# Altium footprint library PcbLib1.PcbLib: 16 footprints
Each footprint in its own frame and in the unit in brackets; x right, y up, seen from the top. Pads: shape width x height; smd on the part's side, far side on the other; paste and mask are expansions set on the pad; w line width, h text height; cw(c..) or ccw(c..) is an arc to the next point about the centre after c.
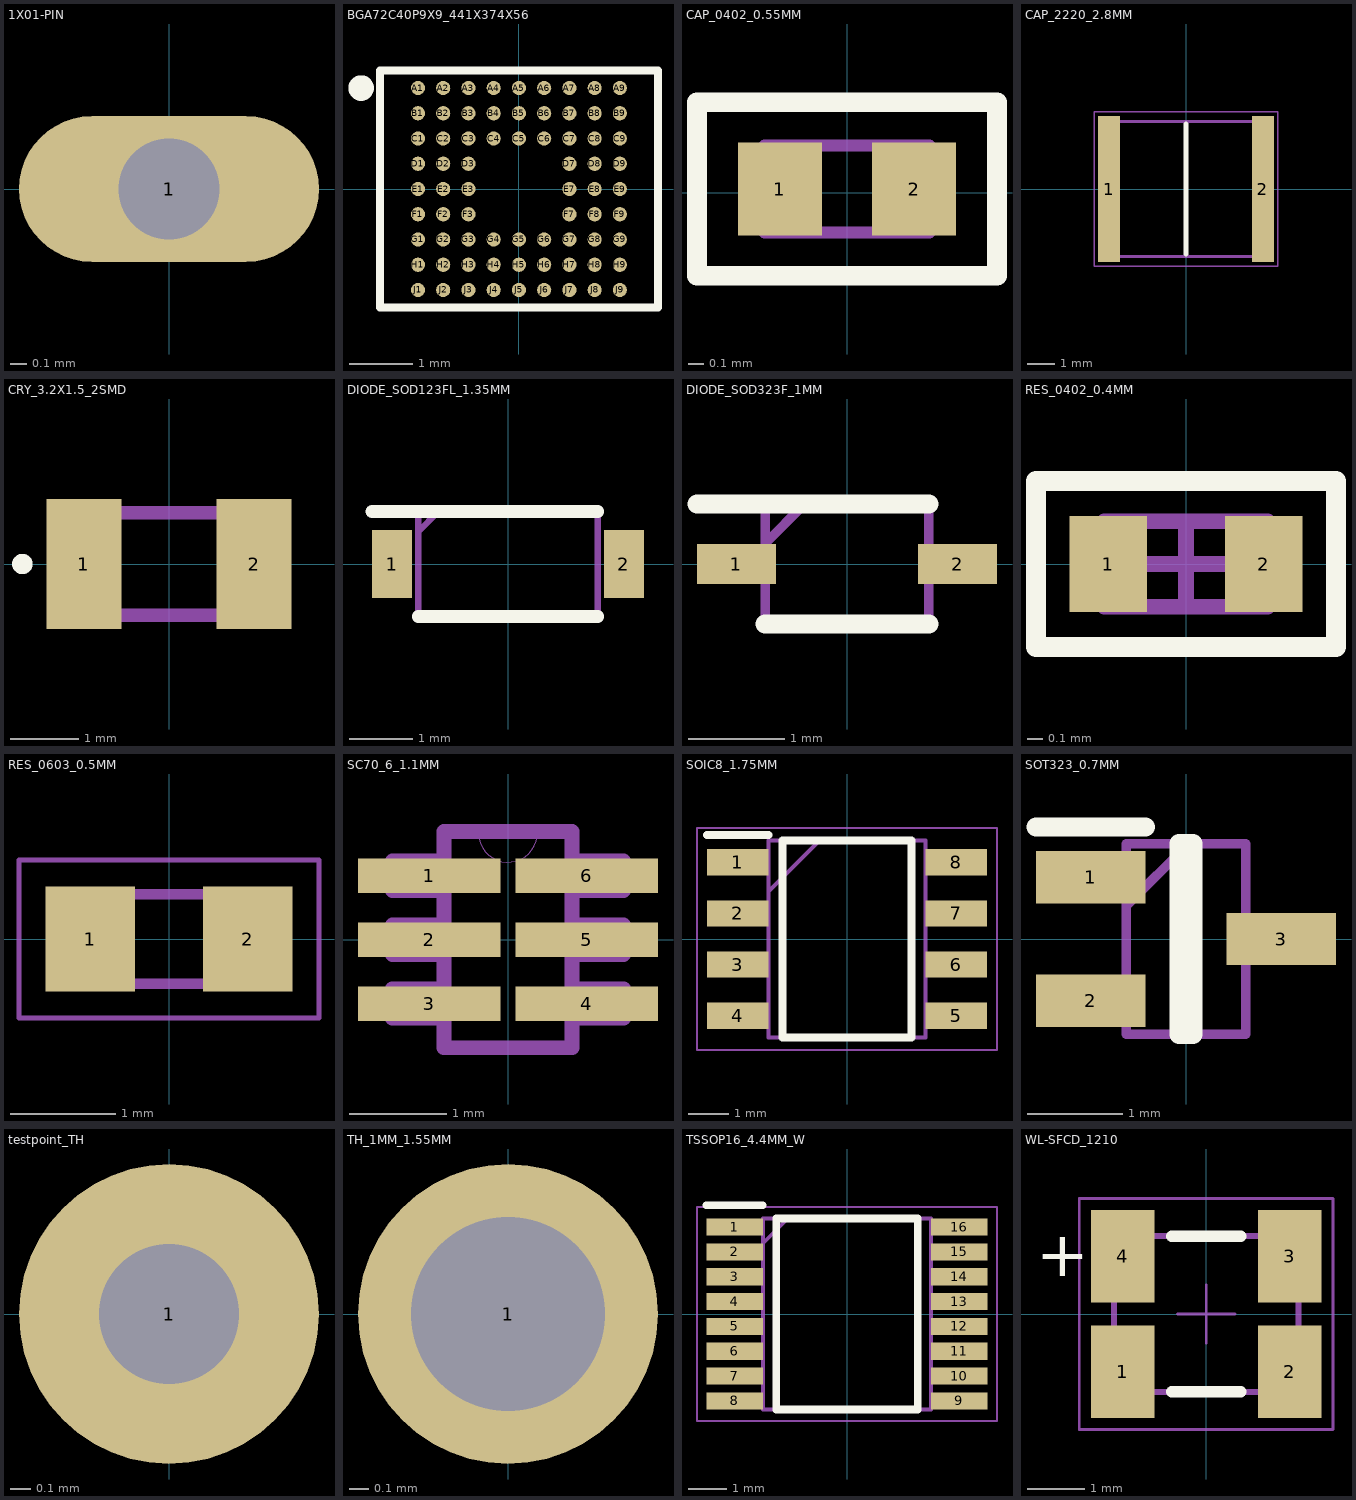
[diagram p0: the footprints below, top view; thin cyan lines are the x and y axes]

## 1X01-PIN [mil]
pads (1):
  oval 74x36 hole 25: 1(0,0)

## BGA72C40P9X9_441X374X56 [mm]
pads (72):
  round 0.225 smd mask+0: A1(-1.6,1.6) A2(-1.2,1.6) A3(-0.8,1.6) A4(-0.4,1.6) A5(0,1.6) A6(0.4,1.6) A7(0.8,1.6) A8(1.2,1.6) A9(1.6,1.6) B1(-1.6,1.2) B2(-1.2,1.2) B3(-0.8,1.2) B4(-0.4,1.2) B5(0,1.2) B6(0.4,1.2) B7(0.8,1.2) B8(1.2,1.2) B9(1.6,1.2) C1(-1.6,0.8) C2(-1.2,0.8) C3(-0.8,0.8) C4(-0.4,0.8) C5(0,0.8) C6(0.4,0.8) C7(0.8,0.8) C8(1.2,0.8) C9(1.6,0.8) D1(-1.6,0.4) D2(-1.2,0.4) D3(-0.8,0.4) D7(0.8,0.4) D8(1.2,0.4) D9(1.6,0.4) E1(-1.6,0) E2(-1.2,0) E3(-0.8,0) E7(0.8,0) E8(1.2,0) E9(1.6,0) F1(-1.6,-0.4) F2(-1.2,-0.4) F3(-0.8,-0.4) F7(0.8,-0.4) F8(1.2,-0.4) F9(1.6,-0.4) G1(-1.6,-0.8) G2(-1.2,-0.8) G3(-0.8,-0.8) G4(-0.4,-0.8) G5(0,-0.8) G6(0.4,-0.8) G7(0.8,-0.8) G8(1.2,-0.8) G9(1.6,-0.8) H1(-1.6,-1.2) H2(-1.2,-1.2) H3(-0.8,-1.2) H4(-0.4,-1.2) H5(0,-1.2) H6(0.4,-1.2) H7(0.8,-1.2) H8(1.2,-1.2) H9(1.6,-1.2) J1(-1.6,-1.6) J2(-1.2,-1.6) J3(-0.8,-1.6) J4(-0.4,-1.6) J5(0,-1.6) J6(0.4,-1.6) J7(0.8,-1.6) J8(1.2,-1.6) J9(1.6,-1.6)
Top Overlay:
  circle w0.305: c-2.5,1.6 r0.05
  lines w0.127: -2.204,-1.88 2.204,-1.88 2.204,1.88 -2.204,1.88 -2.204,-1.88
Top Solder:
  drawing of 72 lines, arcs and shapes, not listed
3D body "STM32L476JGY6TR--3DModel-STEP-56544.STEP": height 0.59, standoff 0, extent -2.204,-1.88 2.204,1.88

## CAP_0402_0.55MM [mm]
height 0.55
pads (2):
  rect 0.54x0.6 smd: 1(-0.432,0.025) 2(0.432,0.025)
Top Overlay:
  lines w0.127: -0.965,-0.533 0.635,-0.533 0.965,-0.533 0.965,0.584 -0.965,0.584 -0.965,-0.203 -0.965,-0.533
Top Assembly:
  lines w0.05: -0.95,-0.525 -0.95,0.575 0.95,0.575 0.95,-0.525 -0.95,-0.525
  lines w0.076: -0.53,-0.255 0.53,-0.255 0.53,0.305 -0.53,0.305 -0.53,-0.255
  text ".Designator" at -0.051,-0.134 h0.51
3D body "GRM155R61E225ME15D.STEP": height 0.5, standoff 0, extent -0.5,-0.254 0.5,0.296

## CAP_2220_2.8MM [mm]
height 2.8
pads (2):
  rect 0.81x5.41 smd: 1(-2.85,0) 2(2.85,0)
Top Overlay:
  lines w0.2: 0,-2.4 0,2.4
Mechanical 13:
  lines w0.1: -2.85,-2.5 -2.85,2.5 2.85,2.5 2.85,-2.5 -2.85,-2.5
Mechanical 15:
  lines w0.05: -3.405,-2.86 -3.405,2.86 3.405,2.86 3.405,-2.86 -3.405,-2.86
3D body "CGA9P3X7R1H226M250KB.STEP": height 2.8, standoff 0, extent -2.85,-2.5 2.85,2.5

## CRY_3.2X1.5_2SMD [mm]
height 0.9
pads (2):
  rect 1.1x1.9 smd: 1(-1.25,0) 2(1.25,0)
Top Overlay:
  lines w0.2: -2.2,0 ccw(c-2.15,0) -2.1,0 ; -2.2,0 cw(c-2.15,0) -2.1,0 ; -2.2,0 ccw(c-2.15,0) -2.1,0
Mechanical 13:
  lines w0.2: -1.6,-0.75 -1.6,0.75 1.6,0.75 1.6,-0.75 -1.6,-0.75
3D body "ECS-.327-6-34QN-TR.stp": height 0.9, standoff 0, extent -1.6,-0.75 1.6,0.75

## DIODE_SOD123FL_1.35MM [mm]
height 1.35
pads (2):
  rect 0.63x1.07 smd: 1(-1.825,0) 2(1.825,0)
Top Overlay:
  lines w0.2: -2.14,0.825 1.412,0.825 ; -1.412,-0.825 1.412,-0.825
Mechanical 13:
  lines w0.1: -1.412,0.51 -1.098,0.825 ; -1.412,-0.825 -1.412,0.825 1.412,0.825 1.412,-0.825 -1.412,-0.825
3D body "SM4001PL-TP.stp": height 1.2, standoff 0, extent -1.85,-0.825 1.85,0.825

## DIODE_SOD323F_1MM [mm]
height 1
pads (2):
  rect 0.82x0.42 smd: 1(-1.15,0) 2(1.15,0)
Top Overlay:
  lines w0.2: -1.56,0.625 0.85,0.625 ; -0.85,-0.625 0.85,-0.625
Mechanical 13:
  lines w0.1: -0.85,0.215 -0.44,0.625 ; -0.85,-0.625 -0.85,0.625 0.85,0.625 0.85,-0.625 -0.85,-0.625
3D body "1N4148WS.stp": height 0.9, standoff 0, extent -1.25,-0.625 1.25,0.625

## RES_0402_0.4MM [mm]
height 0.55
pads (2):
  rect 0.5x0.62 smd: 1(-0.5,0) 2(0.5,0)
Top Overlay:
  lines w0.127: -0.965,-0.533 -0.965,-0.203 -0.965,0.533 0.965,0.533 0.965,-0.533 0.635,-0.533 -0.965,-0.533
Mechanical 5:
  lines w0.1: -0.275,0 0.275,0 ; 0,-0.275 0,0.275 ; -0.525,-0.275 0.525,-0.275 0.525,0.275 -0.525,0.275 -0.525,-0.275
  text ".Designator" at -0.051,-0.134 h0.51
3D body "RC0402FR-07100KL.stp": height 0.4, standoff 0, extent -0.5,-0.25 0.5,0.25

## RES_0603_0.5MM [mm]
height 0.5
pads (2):
  rect 0.85x1 smd: 1(-0.75,0) 2(0.75,0)
Mechanical 13:
  lines w0.1: -0.788,-0.425 -0.788,0.425 0.788,0.425 0.788,-0.425 -0.788,-0.425
Mechanical 15:
  lines w0.05: -1.425,-0.75 -1.425,0.75 1.425,0.75 1.425,-0.75 -1.425,-0.75
3D body "CRCW060310K0FKEA.stp": height 0.5, standoff 0, extent -0.787,-0.425 0.787,0.425

## SC70_6_1.1MM [mil]
height 43.31
pads (6):
  rect 58x14 smd: 1(-32,26) 2(-32,0) 3(-32,-26) 4(32,-26) 5(32,0) 6(32,26)
Mechanical 13:
  lines w0: -12,43.08 ccw(c0,43.5) 12,43.92
  lines w6: -47,-32 -26,-32 -26,-20 -47,-20 -47,-32 ; -47,-6 -26,-6 -26,6 -47,6 -47,-6 ; -47,20 -26,20 -26,32 -47,32 -47,20 ; -26,-44 -26,44 12,44 26,44 26,-44 -26,-44 ; 26,-32 47,-32 47,-20 26,-20 26,-32 ; 26,-6 47,-6 47,6 26,6 26,-6 ; 26,20 47,20 47,32 26,32 26,20
3D body "User Library-SC70-6.step": height 36.73, standoff -0.67, extent -41.34,-39.37 41.34,39.37

## SOIC8_1.75MM [mm]
height 1.75
pads (8):
  rect 1.526x0.65 smd: 1(-2.712,1.905) 2(-2.712,0.635) 3(-2.712,-0.635) 4(-2.712,-1.905) 5(2.712,-1.905) 6(2.712,-0.635) 7(2.712,0.635) 8(2.712,1.905)
Top Overlay:
  lines w0.2: -3.475,2.58 -1.95,2.58 ; -1.6,-2.451 -1.6,2.451 1.6,2.451 1.6,-2.451 -1.6,-2.451
Mechanical 13:
  lines w0.1: -1.95,1.181 -0.68,2.451 ; -1.95,-2.451 -1.95,2.451 1.95,2.451 1.95,-2.451 -1.95,-2.451
Mechanical 15:
  lines w0.05: -3.725,-2.752 -3.725,2.752 3.725,2.752 3.725,-2.752 -3.725,-2.752
3D body "LT1017IS8#PBF.stp": height 1.75, standoff 0, extent -2.997,-2.451 2.997,2.451

## SOT323_0.7MM [mm]
height 0.7
pads (3):
  rect 1.15x0.55 smd: 1(-1,0.65) 2(-1,-0.65) 3(1,0)
Top Overlay:
  lines w0.2: -1.575,1.175 -0.425,1.175 ; -0.075,-1 -0.075,1 0.075,1 0.075,-1 -0.075,-1
Mechanical 13:
  lines w0.1: -0.625,0.35 0.025,1 ; -0.625,-1 -0.625,1 0.625,1 0.625,-1 -0.625,-1
3D body "MMBT4403WT1G.stp": height 1, standoff 0, extent -1.1,-1 1.1,1

## testpoint_TH [mm]
pads (1):
  round 1.5 / inner round 1 / far side round 1.5 hole 0.7 paste-0.254 mask-0.254: 1(0,0)

## TH_1MM_1.55MM [mm]
pads (1):
  round 1.55 / inner round 1 / far side round 1.5 hole 1 paste-0.254 mask-0.254: 1(0,0)

## TSSOP16_4.4MM_W [mm]
height 1.1
pads (16):
  rect 1.475x0.45 smd: 1(-2.938,2.275) 2(-2.938,1.625) 3(-2.938,0.975) 4(-2.938,0.325) 5(-2.938,-0.325) 6(-2.938,-0.975) 7(-2.938,-1.625) 8(-2.938,-2.275) 9(2.938,-2.275) 10(2.938,-1.625) 11(2.938,-0.975) 12(2.938,-0.325) 13(2.938,0.325) 14(2.938,0.975) 15(2.938,1.625) 16(2.938,2.275)
Top Overlay:
  lines w0.2: -3.675,2.85 -2.2,2.85 ; -1.85,-2.5 -1.85,2.5 1.85,2.5 1.85,-2.5 -1.85,-2.5
Mechanical 13:
  lines w0.1: -2.2,1.85 -1.55,2.5 ; -2.2,-2.5 -2.2,2.5 2.2,2.5 2.2,-2.5 -2.2,-2.5
Mechanical 15:
  lines w0.05: -3.925,-2.8 -3.925,2.8 3.925,2.8 3.925,-2.8 -3.925,-2.8
3D body "MAX7315AUE+.stp": height 1.1, standoff 0, extent -3.2,-2.5 3.2,2.5

## WL-SFCD_1210 [mm]
pads (4):
  rect 1.1x1.6 smd: 1(-1.45,-1) 2(1.45,-1) 3(1.45,1) 4(-1.45,1)
Top Overlay:
  lines w0.2: -0.6,-1.35 0.6,-1.35 ; -0.6,1.35 0.6,1.35
  text "+" at -2.95,0.65 h0.8
Mechanical 13:
  lines w0.1: -1.6,-1.35 -1.6,1.35 1.6,1.35 1.6,-1.35 -1.6,-1.35
Mechanical 15:
  lines w0.05: -0.5,0 0.5,0 ; 0,-0.5 0,0.5 ; -2.2,-2 2.2,-2 2.2,2 -2.2,2 -2.2,-2
3D body "150121M153000.stp": height 1.08, standoff -0.02, extent -1.6,-1.35 1.6,1.35